# EAGLE library part PIN_3X10 (library QADT)
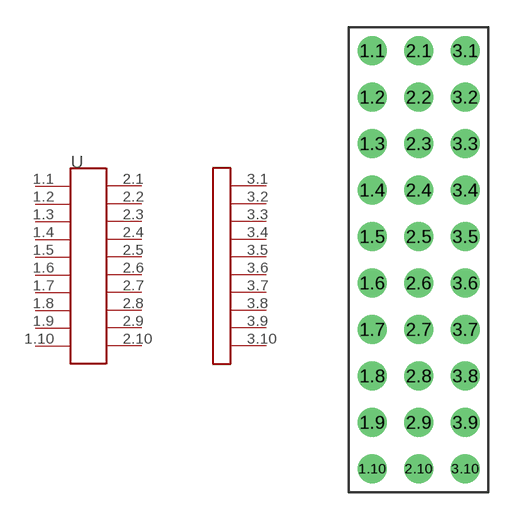
[diagram p12: symbol with the pads of PIN_3X10; footprint PIN_3X10]

Designator prefix -

## PIN_3X10  [PIN_3X10]
1.1  1.1
1.2  1.2
1.3  1.3
1.4  1.4
1.5  1.5
1.6  1.6
1.7  1.7
1.8  1.8
1.9  1.9
1.10  1.10
2.1  2.1
2.2  2.2
2.3  2.3
2.4  2.4
2.5  2.5
2.6  2.6
2.7  2.7
2.8  2.8
2.9  2.9
2.10  2.10
3.1  3.1
3.2  3.2
3.3  3.3
3.4  3.4
3.5  3.5
3.6  3.6
3.7  3.7
3.8  3.8
3.9  3.9
3.10  3.10

## Footprint PIN_3X10 (pad centres in mm)
drill 1.067: 1.1 0,7.62; 1.2 0,5.08; 1.3 0,2.54; 1.4 0,0; 1.5 0,-2.54; 1.6 0,-5.08; 1.7 0,-7.62; 1.8 0,-10.16; 1.9 0,-12.7; 1.10 0,-15.24; 2.1 2.54,7.62; 2.2 2.54,5.08; 2.3 2.54,2.54; 2.4 2.54,0; 2.5 2.54,-2.54; 2.6 2.54,-5.08; 2.7 2.54,-7.62; 2.8 2.54,-10.16; 2.9 2.54,-12.7; 2.10 2.54,-15.24; 3.1 5.08,7.62; 3.2 5.08,5.08; 3.3 5.08,2.54; 3.4 5.08,0; 3.5 5.08,-2.54; 3.6 5.08,-5.08; 3.7 5.08,-7.62; 3.8 5.08,-10.16; 3.9 5.08,-12.7; 3.10 5.08,-15.24